# Altium schematic symbol library TR_PNP_1E_2B_3C.Schlib: 1 symbol
Pins are listed as number, name and electrical type; pins without a type are passive.

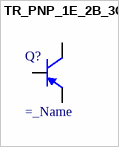
[diagram p0: symbol TR_PNP_1E_2B_3C]

## TR_PNP_1E_2B_3C
designator Q?  (value not drawn)
=description; Value: =_Name
pins: 1 E, 2 B, 3 C